# Altium footprint library Audio MIC and SPKR.PcbLib: 6 footprints
Each footprint in its own frame and in the unit in brackets; x right, y up, seen from the top. Pads: shape width x height; smd on the part's side, far side on the other; paste and mask are expansions set on the pad; w line width, h text height; cw(c..) or ccw(c..) is an arc to the next point about the centre after c.
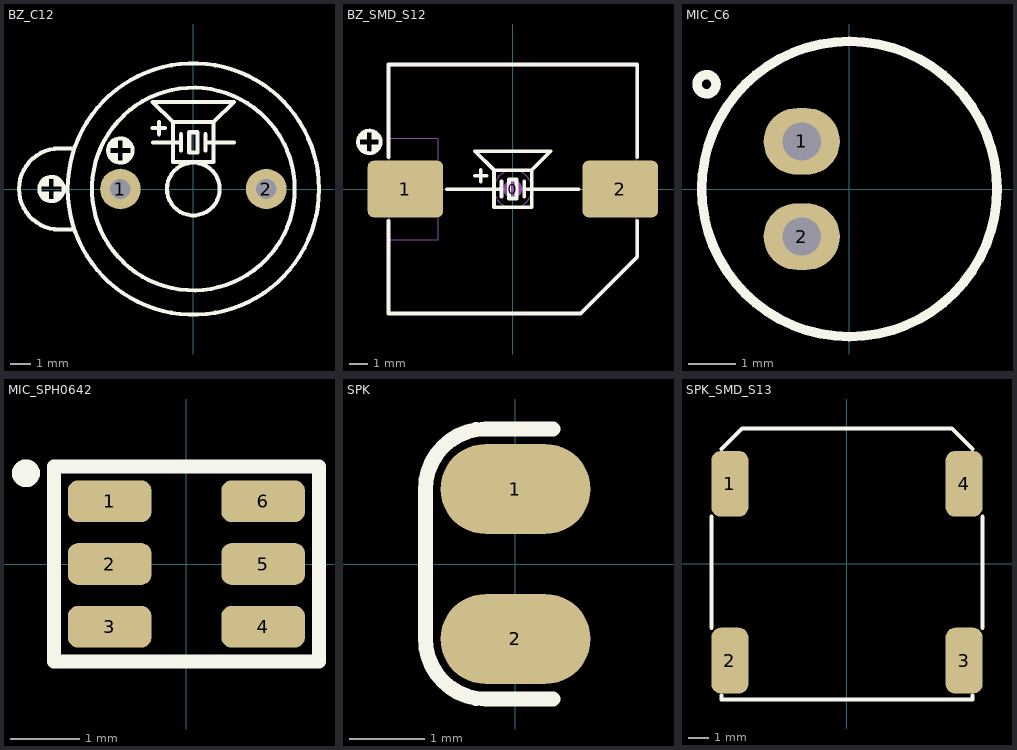
[diagram p0: the footprints below, top view; thin cyan lines are the x and y axes]

## BZ_C12 [mm] "BUZZER 12mm DIA, 8.5mm Height , 7.62mm pitch"
pads (2):
  round 2 hole 1: 1(-3.6,0) 2(3.6,0)
Top Overlay:
  circle w0.2: c-3.6,1.9 r0.6
  circle w0.2: c0,0 r1.3
  circle w0.2: c0,0 r5
  circle w0.2: c0,0 r6.2
  circle w0.2: c-7,0 r0.6
  rectangle: -4.1,2.027 -3.712,2.4
  rectangle: -4.1,1.4 -3.712,1.773
  region: -3.1,1.773 -3.488,1.773 -3.488,1.4 -3.1,1.4
  region: -3.1,2.4 -3.488,2.4 -3.488,2.027 -3.1,2.027
  region: -6.5,0.5 -6.888,0.5 -6.888,0.127 -6.5,0.127
  region: -6.5,-0.127 -6.888,-0.127 -6.888,-0.5 -6.5,-0.5
  rectangle: -7.5,-0.5 -7.112,-0.127
  rectangle: -7.5,0.127 -7.112,0.5
  lines w0.2: -5.9,-2 -6.6,-2 cw(c-6.6,0) -6.6,2 -5.9,2 ; -2.007,3 -1.393,3 ; -2,2.286 -0.6,2.286 ; -1.7,2.7 -1.7,3.314 ; -0.6,1.9 -0.6,2.7 ; 0.6,1.9 0.6,2.7 ; 0.6,2.286 2,2.286 ; -1,3.3 1,3.3 ; -1,3.3 -1,1.329 1,1.329 1,3.3 ; -1,3.3 -2.002,4.3 2.002,4.3 1,3.3 ; -0.2,1.8 -0.2,2.8 0.2,2.8 0.2,1.8 -0.2,1.8
3D body "User Library-Buzzer CEM-1205C.step": height 9.5, standoff -3.5, extent -6,-5.997 6,5.997

## BZ_SMD_S12 [mm] "Buzzer SMD sealed 12.8 L x 12.8 W x 7.6mm H 5Vp, CT-1205-SMT"
height 7.6
pads (3):
  round 1 on Mech15: 0(0,0)
  rrect20% 4x3 smd: 1(-5.7,0) 2(5.7,0)
Top Overlay:
  circle w0.2: c-7.616,2.5 r0.6
  rectangle: -8.116,2.627 -7.728,3
  rectangle: -8.116,2 -7.728,2.373
  region: -7.116,2.373 -7.504,2.373 -7.504,2 -7.116,2
  region: -7.116,3 -7.504,3 -7.504,2.627 -7.116,2.627
  lines w0.2: -6.6,-1.7 -6.6,-6.6 3.6,-6.6 6.6,-3.6 6.6,-1.7 ; -6.6,1.7 -6.6,6.6 6.6,6.6 6.6,1.7 ; -3.5,-0.014 -0.6,-0.014 ; -2.007,0.7 -1.393,0.7 ; -1.7,0.4 -1.7,1.014 ; -0.6,-0.4 -0.6,0.4 ; 0.6,-0.4 0.6,0.4 ; 0.6,-0.014 3.5,-0.014 ; -1,1 -2.002,2 2.002,2 1,1 ; -1,1 -1,-0.971 1,-0.971 1,1 ; -1,1 1,1 ; -0.2,-0.5 0.2,-0.5 0.2,0.5 -0.2,0.5 -0.2,-0.5
Mechanical 13:
  circle w0.05: c0,0 r1
  lines w0.05: -6.65,-1.15 -6.65,1.15 ; -6.55,-2.7 -3.95,-2.7 -3.95,2.7 -6.55,2.7 ; -6.55,-1.15 -7.15,-1.15 -7.15,1.15 -6.55,1.15 ; 6.55,-1.15 7.15,-1.15 7.15,1.15 6.55,1.15 ; 6.65,-1.15 6.65,1.15 ; -6.55,-6.55 -6.55,6.55 6.55,6.55 6.55,-3.55 3.55,-6.55 -6.55,-6.55
3D body "CT-1205-SMT.STEP": height 7.6, standoff 0, extent -7.15,-6.55 7.15,6.55

## MIC_C6 [mm] "MIC, WM-63PR, POM-3535P-3-R"
height 2.2
pads (2):
  oval 1.6x1.4 hole 0.8: 1(-1,1) 2(-1,-1)
Top Overlay:
  circle w0.2: c0,0 r3.1
  circle w0.2: c-3,2.2 r0.2
3D body "CMC-2242PBL-A.stp": height 2.4, standoff -2.8, extent -3,-3 3,3

## MIC_SPH0642 [mm] "SPH0642HT5H-1 Knowles MIC-MEMS 6-LEADS, 3.5X2.65mm"
height 1
pads (6):
  rrect50% 1.2x0.6 smd: 1(-1.1,0.9) 2(-1.1,0) 3(-1.1,-0.9) 4(1.1,-0.9) 5(1.1,0) 6(1.1,0.9)
Top Overlay:
  circle w0.2: c-2.3,1.3 r0.1
  lines w0.2: -1.9,-1.4 -1.9,1.4 1.9,1.4 1.9,-1.4 -1.9,-1.4
3D body: height 1, standoff 0.01, extent -1.8,-1.325 1.8,1.325
3D body: height 1.01, standoff 0, extent -1.3,-0.5 -0.3,0.5
3D body: height 1.02, standoff 0, extent -1.1,-0.3 -0.5,0.3

## SPK [mm]
pads (2):
  oval 2x1.2 smd mask+0.075: 1(0,1) 2(0,-1)
Top Overlay:
  lines w0.2: 0.5,-1.8 -0.4,-1.8 cw(c-0.4,-1) -1.2,-1 -1.2,1 cw(c-0.4,1) -0.4,1.8 0.5,1.8

## SPK_SMD_S13 [mm] "SPEAKER, CDS-13138-SMT 13X13mm"
pads (4):
  rrect50% 1.8x3.2 smd: 1(-5.7,3.9) 2(-5.7,-4.7) 3(5.7,-4.7) 4(5.7,3.9)
Top Overlay:
  lines w0.2: -6.6,-3.1 -6.6,2.3 ; -6.1,-6.4 -6.1,-6.6 6.1,-6.6 6.1,-6.4 ; -6.1,5.6 -5.1,6.6 5.1,6.6 6.1,5.6 ; 6.6,-3.1 6.6,2.3
3D body "CDS-13138-SMT.stp": height 4, standoff -0.01, extent -6.5,-6.5 6.5,6.5